# EAGLE library part 2XETHERNET (library Shell2013 (1))
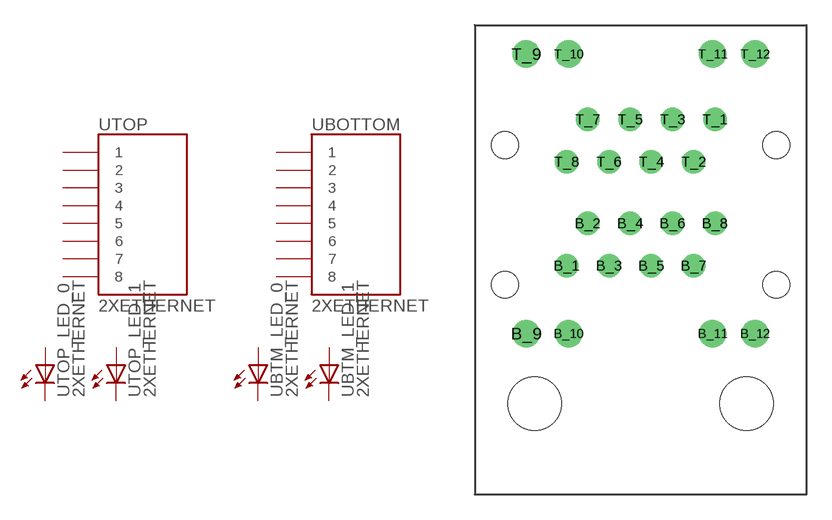
[diagram p10: symbol with the pads of 2XETHERNET; footprint 2XETHERNET]

Designator prefix -; gates TOP=RJ45-8 BOTTOM=RJ45-8 TOP_LED_0=LED TOP_LED_1=LED BTM_LED_0=LED BTM_LED_1=LED

## 2XETHERNET  [2XETHERNET]
B_1  BOTTOM:1
B_2  BOTTOM:2
B_3  BOTTOM:3
B_4  BOTTOM:4
B_5  BOTTOM:5
B_6  BOTTOM:6
B_7  BOTTOM:7
B_8  BOTTOM:8
B_9  BTM_LED_0:A  pas
B_10  BTM_LED_0:C  pas
B_11  BTM_LED_1:A  pas
B_12  BTM_LED_1:C  pas
T_1  TOP:1
T_2  TOP:2
T_3  TOP:3
T_4  TOP:4
T_5  TOP:5
T_6  TOP:6
T_7  TOP:7
T_8  TOP:8
T_9  TOP_LED_0:A  pas
T_10  TOP_LED_0:C  pas
T_11  TOP_LED_1:A  pas
T_12  TOP_LED_1:C  pas

## Footprint 2XETHERNET (pad centres in mm)
Dual vertical ethernet connector. FCI 10118075-513B010LF Digikey PN 609-4630-ND
drill 0.9: B_1 -4.44,8.25; B_2 -3.17,10.79; B_3 -1.9,8.25; B_4 -0.63,10.79; B_5 0.64,8.25; B_6 1.91,10.79; B_7 3.18,8.25; B_8 4.45,10.79; T_1 4.45,17.02; T_2 3.18,14.48; T_3 1.91,17.02; T_4 0.64,14.48; T_5 -0.63,17.02; T_6 -1.9,14.48; T_7 -3.17,17.02; T_8 -4.44,14.48
drill 1.1: B_9 -6.86,4.19; B_10 -4.32,4.19; B_11 4.32,4.19; B_12 6.86,4.19; T_9 -6.86,20.95; T_10 -4.32,20.95; T_11 4.32,20.95; T_12 6.86,20.95
hole 3.2 at -6.35,0
hole 3.2 at 6.35,0
hole 1.6 at -8.13,15.49
hole 1.6 at 8.13,15.49
hole 1.6 at -8.13,7.11
hole 1.6 at 8.13,7.11